# Altium footprint library LTST-C170KFKT.PcbLib: 3 footprints
Each footprint in its own frame and in the unit in brackets; x right, y up, seen from the top. Pads: shape width x height; smd on the part's side, far side on the other; paste and mask are expansions set on the pad; w line width, h text height; cw(c..) or ccw(c..) is an arc to the next point about the centre after c.
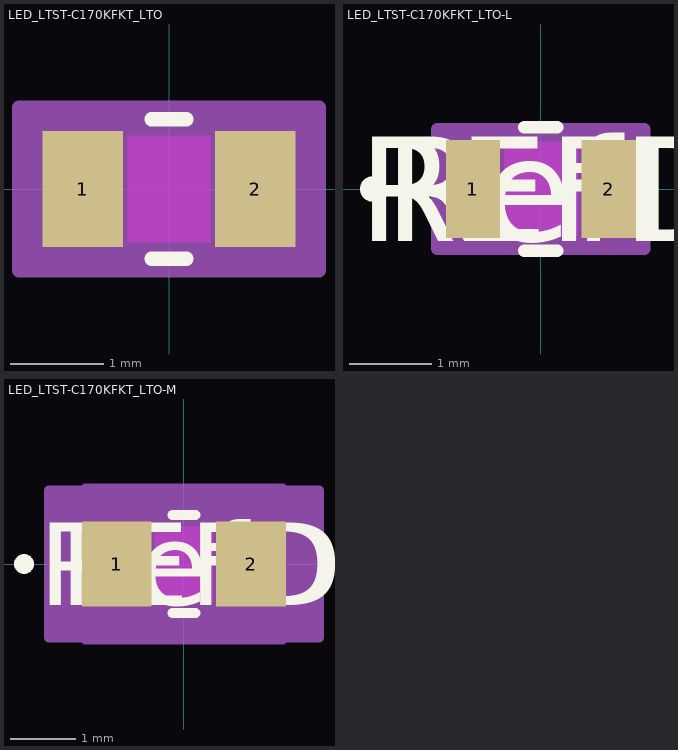
[diagram p0: the footprints below, top view; thin cyan lines are the x and y axes]

## LED_LTST-C170KFKT_LTO [mil]
pads (2):
  rect 34x49 smd paste+0 mask+0: 1(-36.5,0) 2(36.5,0)
Top Layer keep-out:
  region: -17.5,-22.5 -17.5,22.5 17.5,22.5 17.5,-22.5
Top Overlay:
  lines w6: -7.39,-29.5 7.39,-29.5 ; -7.39,29.5 7.39,29.5
Keep-Out Layer:
  region: -17.5,-22.5 -17.5,22.5 17.5,22.5 17.5,-22.5
Mechanical 13:
  lines w1: -39.5,-24.5 -39.5,24.5 ; -39.5,-24.5 39.5,-24.5 ; -39.5,-24.5 -39.5,24.5 ; -39.5,-24.5 -39.5,24.5 ; -39.5,24.5 39.5,24.5 ; 39.5,-24.5 39.5,24.5 ; 39.5,-24.5 39.5,24.5 ; 39.5,-24.5 39.5,24.5
Mechanical 15:
  region: -49.5,-34.5 -63.5,-34.5 -63.5,34.5 -49.5,34.5 49.5,34.5 63.5,34.5 63.5,-34.5 49.5,-34.5
  lines w6: -63.5,-34.5 -49.5,-34.5 49.5,-34.5 63.5,-34.5 63.5,34.5 49.5,34.5 -49.5,34.5 -63.5,34.5 -63.5,-34.5
3D body "LED_LTST-C170KFKT_LTO.step": height 43.11, standoff 0, extent -39.49,-24.49 39.49,24.49

## LED_LTST-C170KFKT_LTO-L [mil]
pads (2):
  rect 26x47 smd paste+0 mask+0: 1(-32.5,0) 2(32.5,0)
Top Layer keep-out:
  region: -17.5,-22.5 -17.5,22.5 17.5,22.5 17.5,-22.5
Top Overlay:
  circle w6: c-80.5,0 r3
  lines w6: -7.85,-29.5 7.85,-29.5 ; -7.85,29.5 7.85,29.5
  text "REFDES" at -87.5,-25 h50
  text "RefDes" at -75,-25 h50
Keep-Out Layer:
  region: -17.5,-22.5 -17.5,22.5 17.5,22.5 17.5,-22.5
Mechanical 13:
  circle w0: c-32.5,0 r3
  lines w1: -39.5,-24.5 -39.5,24.5 ; -39.5,-24.5 -39.5,24.5 ; -39.5,-24.5 -39.5,-24.5 ; -39.5,-24.5 39.5,-24.5 ; -39.5,-24.5 -39.5,24.5 ; -39.5,24.5 -39.5,24.5 ; -39.5,24.5 39.5,24.5 ; 39.5,-24.5 39.5,24.5 ; 39.5,-24.5 39.5,-24.5 ; 39.5,-24.5 39.5,24.5 ; 39.5,-24.5 39.5,24.5 ; 39.5,24.5 39.5,24.5
  text "RefDes2" at -87.5,-25 h50
Mechanical 15:
  region: -43.5,-28.5 -49.5,-28.5 -49.5,28.5 -43.5,28.5 43.5,28.5 49.5,28.5 49.5,-28.5 43.5,-28.5
  lines w6: -43.5,-28.5 -49.5,-28.5 -49.5,28.5 -43.5,28.5 ; -43.5,-28.5 -43.5,-28.5 ; -43.5,-28.5 43.5,-28.5 ; -43.5,28.5 -43.5,28.5 ; -43.5,28.5 43.5,28.5 ; 43.5,-28.5 49.5,-28.5 49.5,28.5 43.5,28.5 ; 43.5,-28.5 43.5,-28.5 ; 43.5,28.5 43.5,28.5
3D body "LED_LTST-C170KFKT_LTO.step": height 43.11, standoff 0, extent -39.49,-24.49 39.49,24.49

## LED_LTST-C170KFKT_LTO-M [mil]
pads (2):
  rect 42x51 smd paste+0 mask+0: 1(-40.5,0) 2(40.5,0)
Top Layer keep-out:
  region: -17.5,-22.5 -17.5,22.5 17.5,22.5 17.5,-22.5
Top Overlay:
  circle w6: c-96.5,0 r3
  lines w6: -7.03,-29.5 7.03,-29.5 ; -7.03,29.5 7.03,29.5
  text "REFDES" at -87.5,-25 h50
  text "RefDes" at -75,-25 h50
Keep-Out Layer:
  region: -17.5,-22.5 -17.5,22.5 17.5,22.5 17.5,-22.5
Mechanical 13:
  circle w0: c-40.5,0 r3
  lines w1: -39.5,-24.5 -39.5,24.5 ; -39.5,-24.5 -39.5,24.5 ; -39.5,-24.5 -39.5,-24.5 ; -39.5,-24.5 39.5,-24.5 ; -39.5,-24.5 -39.5,24.5 ; -39.5,24.5 -39.5,24.5 ; -39.5,24.5 39.5,24.5 ; 39.5,-24.5 39.5,24.5 ; 39.5,-24.5 39.5,-24.5 ; 39.5,-24.5 39.5,24.5 ; 39.5,-24.5 39.5,24.5 ; 39.5,24.5 39.5,24.5
  text "RefDes2" at -87.5,-25 h50
Mechanical 15:
  region: -59.5,-44.5 -81.5,-44.5 -81.5,44.5 -59.5,44.5 -59.5,45.5 59.5,45.5 59.5,44.5 81.5,44.5 81.5,-44.5 59.5,-44.5 59.5,-45.5 -59.5,-45.5
  lines w6: -81.5,-44.5 -81.5,44.5 -59.5,44.5 -59.5,45.5 59.5,45.5 59.5,44.5 81.5,44.5 81.5,-44.5 59.5,-44.5 59.5,-45.5 -59.5,-45.5 -59.5,-44.5 -81.5,-44.5
3D body "LED_LTST-C170KFKT_LTO.step": height 43.11, standoff 0, extent -39.49,-24.49 39.49,24.49